# EAGLE library part MOTOR-DRIVER-DRV8833 (library FlashPCB_ICs)
DRV8833 - Bipolar Motor Driver NMOS PWM 16-HTSSOP Technical Specifications: Dual H-Bridge Current-Control Motor Driver Suitable for 2x DC motors or 1x Stepper Motor Supply Voltage: 2.7V~10.8V PWM Winding Current Regulation Component Search: DRV8833 <https://www.flashpcb.com/components> Datasheet: DRV8833 Dual H-Bridge Motor Driver datasheet (Rev. E) <https://www.ti.com/lit/ds/symlink/drv8833.pdf?HQS=dis-dk-null-digikeymode-dsf-pf-null-wwe&ts=1682362823877&ref_url=https%253A%252F%252Fwww.ti.com%252Fgeneral%252Fdocs%252Fsuppproductinfo.tsp%253FdistId%253D10%2526gotoUrl%253Dhttps%253A%252F%252Fwww.ti.com%252Flit%252Fgpn%252Fdrv8833>
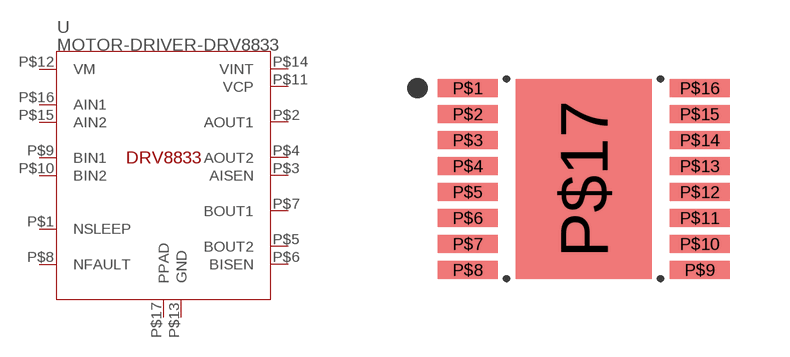
[diagram p62: symbol with the pads of 16-HTSSOP; footprint 16-HTSSOP]

Designator prefix U

## MOTOR-DRIVER-DRV8833PWP  [16-HTSSOP]
P$1  NSLEEP
P$2  AOUT1
P$3  AISEN
P$4  AOUT2
P$5  BOUT2
P$6  BISEN
P$7  BOUT1
P$8  NFAULT
P$9  BIN1
P$10  BIN2
P$11  VCP
P$12  VM
P$13  GND
P$14  VINT
P$15  AIN2
P$16  AIN1
P$17  PPAD

## Footprint 16-HTSSOP (pad centres in mm)
smd 1.5 x 0.45: P$1 -2.9,2.275; P$2 -2.9,1.625; P$3 -2.9,0.975; P$4 -2.9,0.325; P$5 -2.9,-0.325; P$6 -2.9,-0.975; P$7 -2.9,-1.625; P$8 -2.9,-2.275; P$9 2.9,-2.275; P$10 2.9,-1.625; P$11 2.9,-0.975; P$12 2.9,-0.325; P$13 2.9,0.325; P$14 2.9,0.975; P$15 2.9,1.625; P$16 2.9,2.275
smd 3.4 x 5: P$17 0,0